# Altium schematic symbol library TP.Schlib: 1 symbol
Pins are listed as number, name and electrical type; pins without a type are passive.

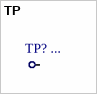
[diagram p0: symbol TP]

## TP
designator TP?, comment ...
Наименование: Точка проверки; Назначение: Контроль параметров платы; TP_Name: ...
footprint TestPoint
pins: 0 TP